# EAGLE library part NODEMCU_LOLINV3 (library Lolin)
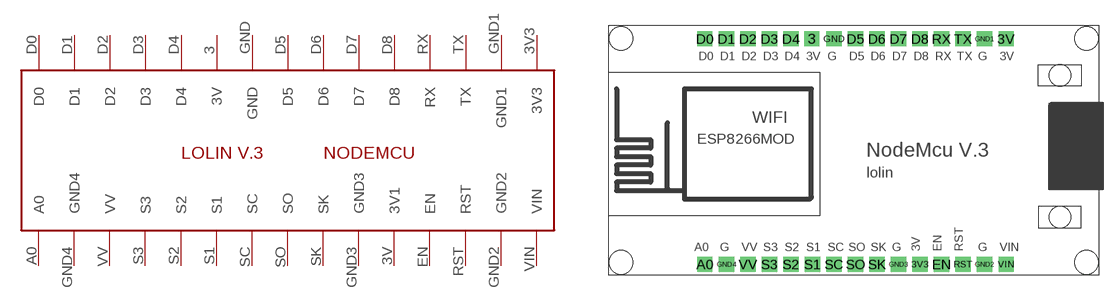
[diagram p0: symbol with the pads of NODEMCU_LOLINV3; footprint NODEMCU_LOLINV3]

Designator prefix IC

## NODEMCU_LOLINV3  [NODEMCU_LOLINV3]
3  3V
3V  3V1
3V3  3V3
A0  A0
D0  D0
D1  D1
D2  D2
D3  D3
D4  D4
D5  D5
D6  D6
D7  D7
D8  D8
EN  EN
GND  GND
GND1  GND1
GND2  GND2
GND3  GND3
GND4  GND4
RST  RST
RX  RX
S1  S1
S2  S2
S3  S3
SC  SC
SK  SK
SO  SO
TX  TX
VIN  VIN
VV  VV

## Footprint NODEMCU_LOLINV3 (pad centres in mm)
drill 0.8 pad 1.778 square: 3 24.03,27.94; 3V 46.99,27.94; 3V3 36.83,1.27; A0 11.43,1.27; D0 11.43,27.94; D1 13.97,27.94; D2 16.51,27.94; D3 19.05,27.94; D4 21.59,27.94; D5 29.21,27.94; D6 31.75,27.94; D7 34.29,27.94; D8 36.83,27.94; EN 39.37,1.27; GND 26.67,27.94; GND1 44.45,27.94; GND2 44.45,1.27; GND3 34.29,1.27; GND4 13.97,1.27; RST 41.91,1.27; RX 39.37,27.94; S1 24.13,1.27; S2 21.59,1.27; S3 19.05,1.27; SC 26.67,1.27; SK 31.75,1.27; SO 29.21,1.27; TX 41.91,27.94; VIN 46.99,1.27; VV 16.51,1.27
hole 2.8 at 56.5,28
hole 2.8 at 56.5,1.5
hole 2.8 at 1.5,1.5
hole 2.8 at 1.5,28